# Altium footprint library SafetySocket.PcbLib: 24 footprints (part 1 of 2)
Each footprint in its own frame and in the unit in brackets; x right, y up, seen from the top. Pads: shape width x height; smd on the part's side, far side on the other; paste and mask are expansions set on the pad; w line width, h text height; cw(c..) or ccw(c..) is an arc to the next point about the centre after c.
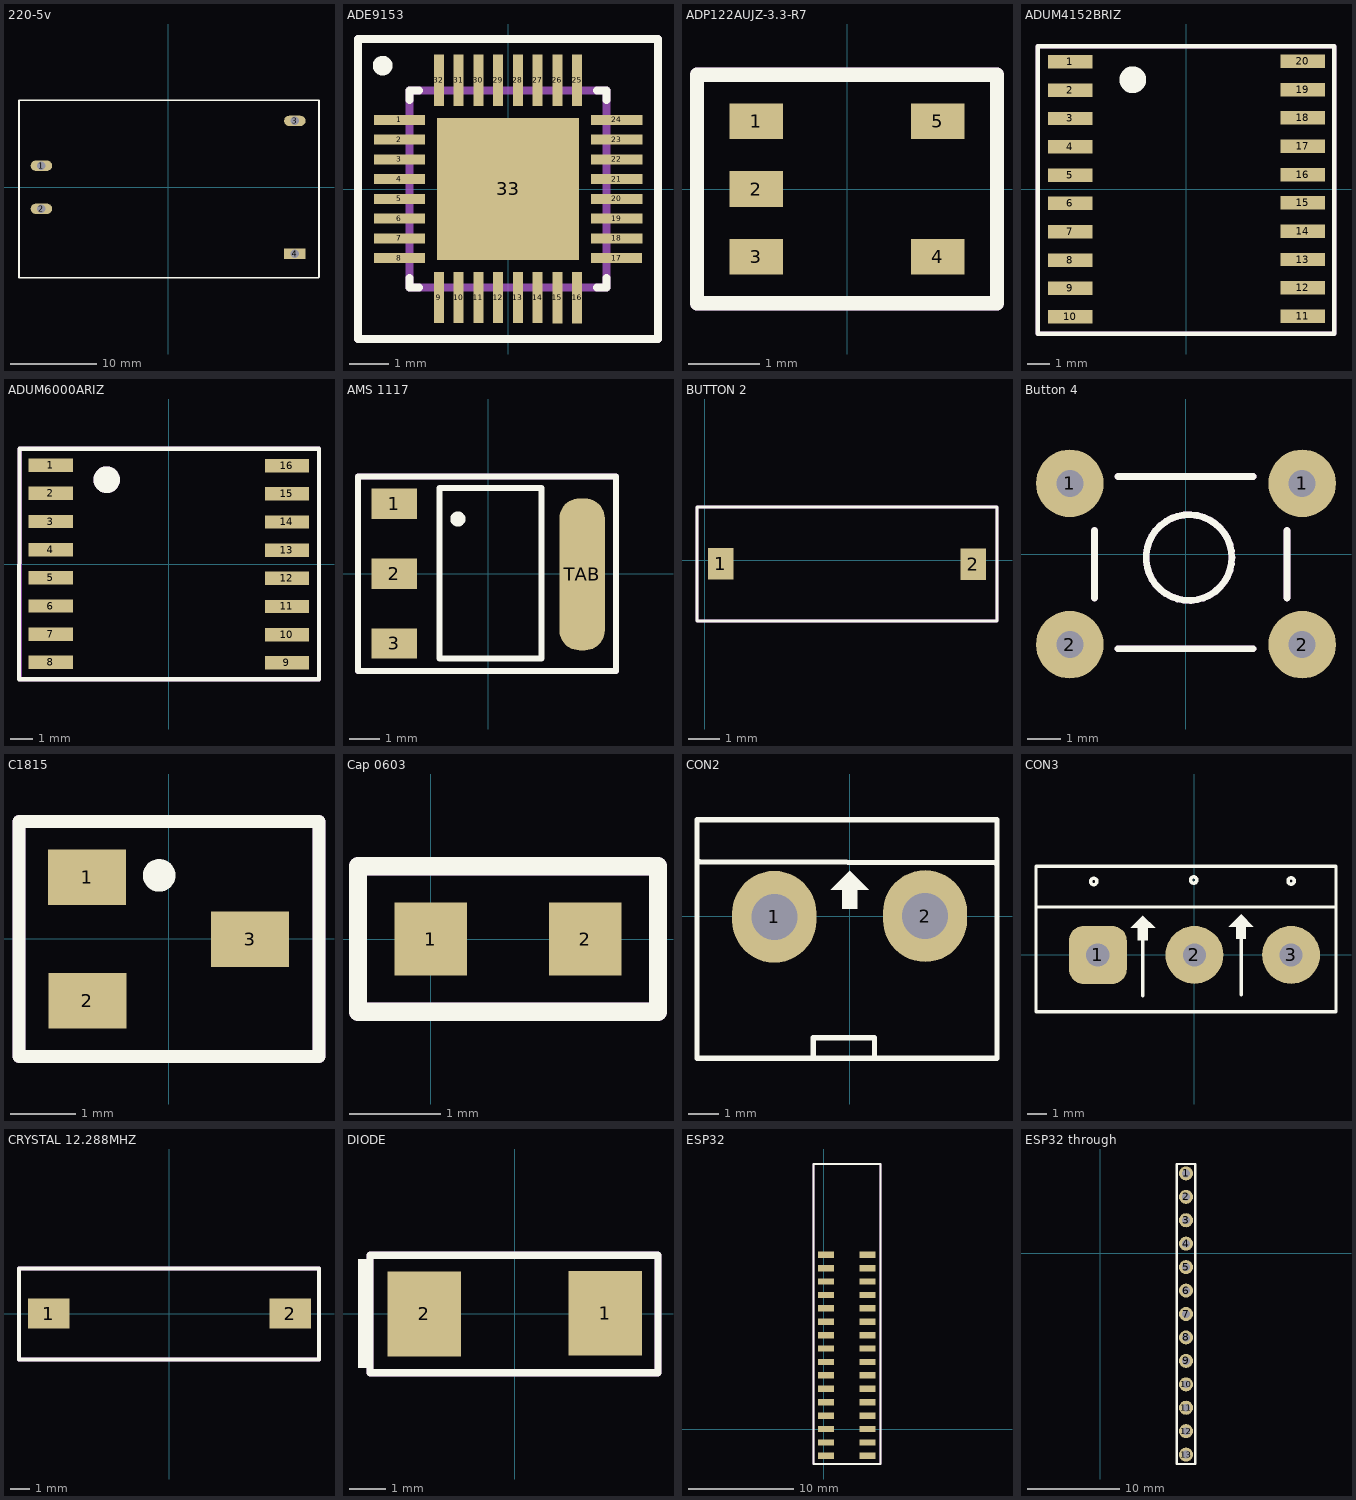
[diagram p0: the footprints below, top view; thin cyan lines are the x and y axes]

## 220-5v [mm]
pads (4):
  oval 2.5x1.2 hole 1: 1(-14.7,2.5) 2(-14.7,-2.5) 3(14.7,7.7)
  rect 2.5x1.2 hole 1: 4(14.7,-7.7)
Top Overlay:
  lines w0.2: 17.45,-10.5 -17.3,-10.5 -17.3,10.1 17.5,10.1 17.5,-10.45
Mechanical 15:
  text ".Comment" at -3.8,-0.3 h0.6
Mechanical 29:
  text "'.Designator'" at -4.2,-0.3 h0.6
3D body "User Library-hilink.step": height 15.01, standoff -5, extent -16.9,-10.1 17.1,10.1

## ADE9153 [mm] "ADE9153"
pads (33):
  rect 1.3x0.25 smd: 1(-2.75,1.75) 2(-2.75,1.25) 3(-2.75,0.75) 4(-2.75,0.25) 5(-2.75,-0.25) 6(-2.75,-0.75) 7(-2.75,-1.25) 8(-2.75,-1.75) 17(2.75,-1.75) 18(2.753,-1.25) 19(2.753,-0.75) 20(2.753,-0.25) 21(2.753,0.25) 22(2.753,0.75) 23(2.753,1.25) 24(2.753,1.75)
  rect 0.25x1.3 smd: 9(-1.75,-2.75) 10(-1.25,-2.75) 11(-0.75,-2.75) 12(-0.25,-2.75) 13(0.25,-2.75) 14(0.75,-2.75) 15(1.25,-2.753) 16(1.75,-2.753) 25(1.75,2.753) 26(1.25,2.753) 27(0.75,2.753) 28(0.25,2.753) 29(-0.25,2.753) 30(-0.75,2.753) 31(-1.25,2.753) 32(-1.75,2.753)
  rect 3.6x3.6 smd paste-1000 mask+0: 33(0,0)
Top Overlay:
  circle w0.25: c-3.175,3.125 r0.125
  lines w0.2: -2.5,-2.25 -2.5,-2.5 -2.25,-2.5 ; -2.5,2.25 -2.5,2.5 -2.25,2.5 ; 2.25,-2.5 2.5,-2.5 2.5,-2.25 ; 2.25,2.5 2.5,2.5 2.5,2.25 ; -3.8,-3.8 -3.8,3.8 3.8,3.8 3.8,-3.8 -3.8,-3.8
Top Paste:
  rectangle: -1.138,-1.138 1.138,1.138
Mechanical 12:
  lines w0.2: -2.5,-2.5 2.5,-2.5 2.5,2.5 -2.5,2.5 -2.5,-2.5
Mechanical 15:
  lines w0.1: -0.5,0 0.5,0 ; 0,-0.5 0,0.5
  lines w0.2: -3.8,-3.8 3.8,-3.8 3.8,3.8 -3.8,3.8 -3.8,-3.8
  text ".Comment" at -2.8,-1.3 h0.6
Mechanical 29:
  lines w0.2: -3.8,-3.8 -3.8,3.8 3.8,3.8 3.8,-3.8 -3.8,-3.8
  text "'.Designator'" at -3.2,-1.3 h0.6
3D body "IC_Analog_Devices_Inc_ADE9153AACPZ_eec.STEP": height 0.8, standoff 0, extent -2.5,-2.5 2.5,2.5

## ADP122AUJZ-3.3-R7 [mm]
pads (5):
  rect 0.75x0.5 smd: 1(-1.272,0.95) 2(-1.272,0) 3(-1.272,-0.95) 4(1.272,-0.95) 5(1.272,0.95)
Top Overlay:
  lines w0.2: -2.1,-1.6 2.1,-1.6 2.1,1.6 -2.1,1.6 -2.1,-1.6
Mechanical 15:
  lines w0.2: -2.1,-1.6 2.1,-1.6 2.1,1.6 -2.1,1.6 -2.1,-1.6
  text ".Comment" at -1,-1 h0.6
Mechanical 29:
  lines w0.2: -2.1,-1.6 2.1,-1.6 2.1,1.6 -2.1,1.6 -2.1,-1.6
  text "'.Designator'" at -1.5,0 h0.6
3D body "User Library-tsot-23-5.step": height 0.95, standoff -0.03, extent -1.375,-1.45 1.425,1.45

## ADUM4152BRIZ [mm]
pads (20):
  rect 2x0.6 smd: 1(-5.215,5.703) 2(-5.215,4.433) 3(-5.215,3.163) 4(-5.215,1.893) 5(-5.215,0.623) 6(-5.215,-0.647) 7(-5.215,-1.917) 8(-5.215,-3.187) 9(-5.215,-4.457) 10(-5.215,-5.727) 11(5.215,-5.702) 12(5.215,-4.432) 13(5.215,-3.162) 14(5.215,-1.892) 15(5.215,-0.622) 16(5.215,0.648) 17(5.215,1.918) 18(5.215,3.188) 19(5.215,4.458) 20(5.215,5.728)
Top Overlay:
  circle w0.6: c-2.4,4.9 r0.3
  lines w0.2: -6.665,-6.5 -6.665,6.398 6.635,6.405 6.635,-6.5 -6.665,-6.5
Mechanical 15:
  lines w0.2: -6.665,-6.5 6.635,-6.5 6.635,6.405 -6.665,6.405 -6.665,-6.5
  text ".Comment" at -3.865,1.147 h0.6
Mechanical 29:
  lines w0.2: -6.665,-6.5 -6.665,6.404 6.635,6.41 6.635,-6.5 -6.665,-6.5
  text "'.Designator'" at -4.265,1.147 h0.6
3D body "User Library-SOIC20_JEDEC_MS-013AC.step": height 2.66, standoff 0, extent -5.315,-6.502 5.315,6.497

## ADUM6000ARIZ [mm]
pads (16):
  rect 2x0.6 smd: 1(-5.325,4.455) 2(-5.325,3.185) 3(-5.325,1.915) 4(-5.325,0.645) 5(-5.325,-0.625) 6(-5.325,-1.895) 7(-5.325,-3.165) 8(-5.325,-4.435) 9(5.325,-4.455) 10(5.325,-3.185) 11(5.325,-1.915) 12(5.325,-0.645) 13(5.325,0.625) 14(5.325,1.895) 15(5.325,3.165) 16(5.325,4.435)
Top Overlay:
  circle w0.6: c-2.8,3.8 r0.3
  lines w0.2: -6.754,-5.2 -6.731,5.2 6.77,5.2 6.77,-5.2 -6.754,-5.2
Mechanical 15:
  circle w0.6: c-2.8,3.8 r0.3
  lines w0.2: -6.73,-5.2 -6.73,5.2 6.77,5.2 6.77,-5.2 -6.73,-5.2
  text ".Comment" at -2.63,0.84 h0.6
Mechanical 29:
  circle w0.6: c-2.8,3.8 r0.3
  lines w0.2: -6.73,-5.2 6.77,-5.2 6.77,5.2 -6.73,5.2 -6.73,-5.2
  text "'.Designator'" at -3.03,0.84 h0.6
3D body "User Library-SOIC16_Wide_JEDEC_MS-013AA.step": height 2.62, standoff -0.03, extent -5.27,-5.235 5.36,5.265

## AMS 1117 [mm]
pads (4):
  rect 1.5x1 smd: 1(-3.09,2.3) 2(-3.09,0) 3(-3.09,-2.3)
  rrect87% 1.5x5 smd paste+0 mask+0: TAB(3.09,-0.025)
Top Overlay:
  circle w0.25: c-1,1.8 r0.125
  lines w0.2: -4.29,-3.2 4.21,-3.2 4.21,3.2 -4.29,3.2 -4.29,-3.2 ; -1.6,-2.8 -1.6,2.825 1.75,2.825 1.75,-2.8 -1.6,-2.8
Mechanical 15:
  pour cut-out: -0.569,3.835
  lines w0.2: -4.29,-3.2 -4.29,3.2 4.21,3.2 4.21,-3.2 -4.29,-3.2
  text ".Comment" at -2.89,0.7 h0.6
Mechanical 29:
  lines w0.2: -4.29,-3.2 4.21,-3.2 4.21,3.2 -4.29,3.2 -4.29,-3.2
  text "'.Designator'" at -3.29,0.7 h0.6
3D body "User Library-AMS1117.step": height 1.85, standoff -0.01, extent -3.48,-3.235 3.52,3.265

## BUTTON 2 [mm]
pads (2):
  rect 0.8x1 smd: 1(0.503,-0.115) 2(8.497,-0.135)
Top Overlay:
  lines w0.1: -0.25,-1.925 9.247,-1.925 9.247,1.675 -0.25,1.675 -0.25,-1.925
Mechanical 15:
  text ".Comment" at 1.2,-0.6 h0.6
Mechanical 29:
  lines w0.1: -0.25,-1.925 -0.25,1.675 9.247,1.675 9.247,-1.925 -0.25,-1.925
  text "'.Designator'" at 0.8,-0.6 h0.6
3D body "User Library-smd buttonm 8mm.step": height 2.5, standoff 0, extent 0.55,-1.95 8.45,1.7

## Button 4 [mm]
pads (4):
  round 2 hole 0.8: 1(-3.43,2.097) 1(3.453,2.097) 2(-3.43,-2.678) 2(3.453,-2.678)
Top Overlay:
  circle w0.2: c0.1,-0.1 r1.27
  lines w0.2: -2.7,-1.3 -2.7,0.7 ; -2,-2.8 2,-2.8 ; -2,2.3 2,2.3 ; 3,-1.3 3,0.7
Mechanical 15:
  circle w0.2: c0.1,-0.1 r1.27
  lines w0.2: -2.7,-1.3 -2.7,0.7 ; -2,-2.8 2,-2.8 ; -2,2.3 2,2.3 ; 3,-1.3 3,0.7
Mechanical 29:
  circle w0.2: c0.1,-0.1 r1.27
  lines w0.2: -2.7,-1.3 -2.7,0.7 ; -2,-2.8 2,-2.8 ; -2,2.3 2,2.3 ; 3,-1.3 3,0.7
3D body "SW3dPS-.STEP": height 7, standoff -3.5, extent -3.875,-3.415 4.025,2.785

## C1815 [mm]
pads (3):
  rect 1.2x0.85 smd: 1(-1.25,0.945) 2(-1.245,-0.945) 3(1.25,-0.005)
Top Overlay:
  circle w0.25: c-0.143,0.975 r0.125
  lines w0.2: -2.293,-1.8 -2.293,1.8 2.307,1.8 2.307,-1.8 -2.293,-1.8
Mechanical 15:
  lines w0.2: -2.293,-1.8 2.307,-1.8 2.307,1.8 -2.293,1.8 -2.293,-1.8
  text ".Comment" at -1.293,-0.025 h0.6
Mechanical 29:
  lines w0.2: -2.293,1.775 -2.293,-1.8 2.307,-1.8 2.307,1.775 ; -2.293,1.8 2.307,1.8
  text "'.Designator'" at -1.693,0.075 h0.6
3D body "SW3DPS-SOT-23-DEFAULT.STEP": height 1.06, standoff -0.04, extent -1.301,-1.505 1.199,1.495

## Cap 0603 [mm]
pads (2):
  rect 0.8x0.8 smd: 1(0,0) 2(1.7,0)
Top Overlay:
  lines w0.2: -0.8,-0.8 -0.8,0.8 2.5,0.8 2.5,-0.8 -0.8,-0.8
Mechanical 15:
  lines w0.2: -0.8,-0.8 2.5,-0.8 2.5,0.8 -0.8,0.8 -0.8,-0.8
  text ".Comment" at 0.5,0 h0.6
Mechanical 29:
  lines w0.2: -0.8,-0.8 2.5,-0.8 2.5,0.8 -0.8,0.8 -0.8,-0.8
  text "'.Designator'" at 0,-0.5 h0.6
3D body "User Library-0603 SMD Capacitor.step": height 0.3, standoff 0, extent 0.05,-0.4 1.65,0.4

## CON2 [mil]
pads (2):
  oval 110x120 hole 60: 1(-98.5,-0.5) 2(98.5,0.5)
Top Overlay:
  region: 0,60 -25,35 -10,35 -10,10 10,10 10,35 25,35
  lines w7: -196.5,71.5 190,70.02 ; -47.5,-181.5 -47.5,-158.5 32.5,-158.5 32.5,-183.5 ; -199.5,-185.5 -199.5,126.5 192.5,126.5 192.5,-185.5 -199.5,-185.5
3D body "User Library-TB2.STEP": height 31.5, standoff -500, extent -201.35,-182.5 192.35,132.46

## CON3 [mm]
pads (3):
  rrect50% 3x3 hole 1.2: 1(-5,0)
  round 3 hole 1.2: 2(0,0) 3(5,0)
Top Overlay:
  circle w0.178: c-0.038,3.877 r0.163
  circle w0.178: c-5.209,3.801 r0.163
  circle w0.178: c5.002,3.826 r0.163
  region: -2.669,2.036 -3.304,1.401 -2.923,1.401 -2.923,0.766 -2.415,0.766 -2.415,1.401 -2.034,1.401
  region: 2.411,2.099 1.776,1.464 2.157,1.464 2.157,0.829 2.665,0.829 2.665,1.464 3.046,1.464
  lines w0.178: -8.2,2.48 7.325,2.48 ; -2.669,-2.117 -2.669,1.718 ; 2.411,-2.067 2.411,1.769 ; -8.2,-2.95 -8.2,0.759 -8.2,4.6 7.325,4.6 7.325,4.034 7.325,3.034 7.325,-2.95 -8.2,-2.95
3D body "KF301-3.step": height 10.05, standoff -2.95, extent -8.2,-3 7.4,4.6

## CRYSTAL 12.288MHZ [mm]
pads (2):
  rect 2.1x1.5 smd: 1(-6.075,0) 2(6.075,0)
Top Overlay:
  lines w0.2: -7.575,-2.325 -7.575,2.275 7.525,2.275 7.525,-2.325 -7.575,-2.325
Mechanical 15:
  lines w0.2: -7.575,-2.325 7.525,-2.325 7.525,2.275 -7.575,2.275 -7.575,-2.325
  text ".Comment" at -3.775,0.375 h0.6
Mechanical 29:
  lines w0.2: -7.575,-2.325 7.525,-2.325 7.525,2.275 -7.575,2.275 -7.575,-2.325
  text "'.Designator'" at -4.175,0.375 h0.6
3D body "Crys_Abracon_ABLS-12.288MHZ-B2-T_eec.STEP": height 4.26, standoff 0.05, extent -6.35,-2.338 6.35,2.362

## DIODE [mm]
pads (2):
  rect 2x2.3 smd: 1(2.462,0.013) 2(-2.462,-0.012)
Top Overlay:
  rectangle: -4.263,-1.488 -3.938,1.488
  lines w0.2: -3.938,-1.612 -3.938,1.587 3.9,1.587 3.9,-1.612 -3.938,-1.612
Mechanical 15:
  rectangle: -4.263,-1.488 -3.938,1.488
  lines w0.2: -3.938,-1.612 3.9,-1.612 3.9,1.587 -3.938,1.587 -3.938,-1.612
  text ".Comment" at -2.538,-0.112 h0.6
Mechanical 29:
  rectangle: -4.263,-1.488 -3.938,1.488
  lines w0.2: -3.938,-1.612 3.9,-1.612 3.9,1.587 -3.938,1.587 -3.938,-1.612
  text "'.Designator'" at -2.638,-0.212 h0.6
3D body "User Library-Diode SMD 1N4007-1.step": height 2.4, standoff -0.03, extent -2.662,-1.567 2.638,1.543

## ESP32 [mm]
pads (32):
  rect 1.5x0.6 all layers, no hole: 1(4.15,16.575) 2(4.15,15.3) 3(4.15,14.025) 4(4.15,12.75) 5(4.15,11.475) 6(4.15,10.2) 7(4.15,8.925) 8(4.15,7.65) 9(4.15,6.375) 10(4.15,5.1) 11(4.15,3.825) 12(4.15,2.55) 13(4.15,1.275) 25(0.2,0) 25(4.15,0) 34(0.2,-2.55) 34(4.15,-2.55) 35(0.2,-1.275) 35(4.15,-1.275) ""(0.2,1.275) ""(0.2,2.55) ""(0.2,3.825) ""(0.2,5.1) ""(0.2,6.375) ""(0.2,7.65) ""(0.2,8.925) ""(0.2,11.475) ""(0.2,12.75) ""(0.2,14.025) ""(0.2,15.3) ""(0.2,10.2) ""(0.2,16.575)
Top Overlay:
  lines w0.2: -1,-3.325 -1,25.2 5.4,25.2 5.4,-3.325 -1,-3.325
Mechanical 15:
  lines w0.2: -1,-3.325 5.4,-3.325 5.4,25.2 -1,25.2 -1,-3.325
  text ".Comment" at 1.425,19.275 h0.6
Mechanical 29:
  lines w0.2: -1,-3.325 5.4,-3.325 5.4,25.2 -1,25.2 -1,-3.325
  text "'.Designator'" at 2.475,19.7 h0.6

## ESP32 through [mm]
pads (13):
  round 1.524 hole 0.85: 1(9.275,8.665) 2(9.275,6.125) 3(9.275,3.585) 4(9.275,1.045) 5(9.275,-1.495) 6(9.275,-4.035) 7(9.275,-6.575) 8(9.275,-9.115) 9(9.275,-11.655) 10(9.275,-14.195) 11(9.275,-16.735) 12(9.275,-19.275) 13(9.275,-21.815)
Top Overlay:
  lines w0.254: 8.259,-22.831 8.259,9.681 10.291,9.681 10.291,-22.831 8.259,-22.831